# EAGLE library part M41T63 (library sensor)
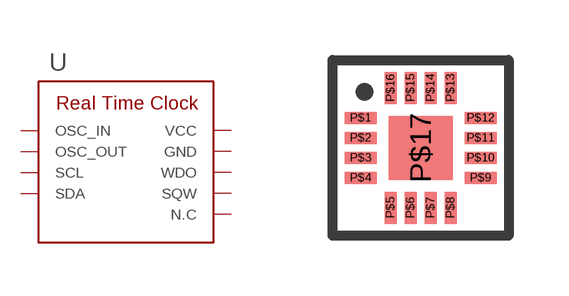
[diagram p3: symbol with the pads of QFN16(3X3); footprint QFN16(3X3)]

Designator prefix U

## M41T63  [QFN16(3X3)]
P$1  OSC_IN  pas
P$2  OSC_OUT  pas
P$3  GND  pwr
P$4  SQW
P$5  GND  pwr
P$6  N.C  nc
P$7  N.C  nc
P$8  N.C  nc
P$9  SDA
P$10  SCL
P$11  WDO
P$12  N.C  nc
P$13  N.C  nc
P$14  VCC  pwr
P$15  VCC  pwr
P$16  VCC  pwr
P$17  GND  pwr

## Footprint QFN16(3X3) (pad centres in mm)
smd 0.8 x 0.3: P$1 -1.5,0.75; P$2 -1.5,0.25; P$3 -1.5,-0.25; P$4 -1.5,-0.75; P$9 1.5,-0.75; P$10 1.5,-0.25; P$11 1.5,0.25; P$12 1.5,0.75
smd 0.3 x 0.8: P$5 -0.75,-1.5; P$6 -0.25,-1.5; P$7 0.25,-1.5; P$8 0.75,-1.5; P$13 0.75,1.5; P$14 0.25,1.5; P$15 -0.25,1.5; P$16 -0.75,1.5
smd 1.6 x 1.6: P$17 0,0